# EAGLE library part M08X2 (library hybridpi)
8x2 0.1" Header M08X2-RIGHT-SHROUD: 302-R165 <http://www.on-shore.com/sites/default/files/manuals/302-rxxx.pdf>
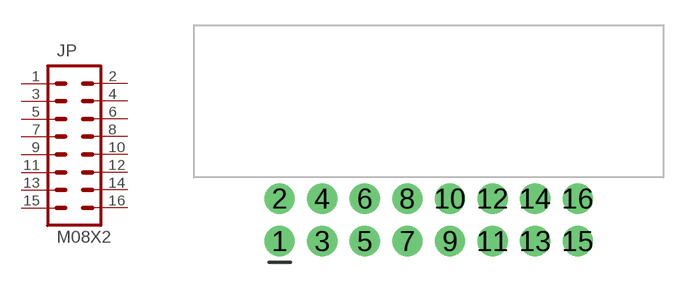
[diagram p4: symbol with the pads of 2X8-RIGHT-SHROUD; footprint 2X8-RIGHT-SHROUD]

Designator prefix JP

## M08X2-RIGHT-SHROUD (EAGLEUP: M08X2-RIGHT-SHROUD)  [2X8-RIGHT-SHROUD]
1  1  pas
2  2  pas
3  3  pas
4  4  pas
5  5  pas
6  6  pas
7  7  pas
8  8  pas
9  9  pas
10  10  pas
11  11  pas
12  12  pas
13  13  pas
14  14  pas
15  15  pas
16  16  pas

## Footprint 2X8-RIGHT-SHROUD (pad centres in mm)
drill 1.2: 1 -8.89,0; 2 -8.89,2.54; 3 -6.35,0; 4 -6.35,2.54; 5 -3.81,0; 6 -3.81,2.54; 7 -1.27,0; 8 -1.27,2.54; 9 1.27,0; 10 1.27,2.54; 11 3.81,0; 12 3.81,2.54; 13 6.35,0; 14 6.35,2.54; 15 8.89,0; 16 8.89,2.54